# EAGLE library part AN6884 (library _mtvl_ic)
5-LED VU METER DRIVER Check availability <https://pricing.snapeda.com/parts/AN6884/Panasonic/view-part?ref=eda>
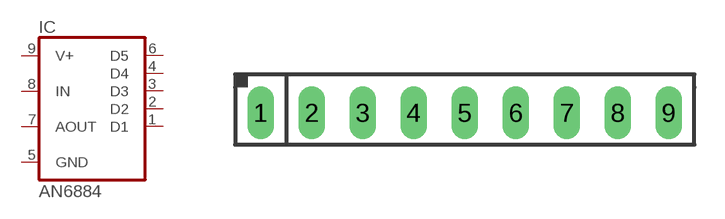
[diagram p49: symbol with the pads of SIP9; footprint SIP9]

Designator prefix IC

## AN6884 (AVAILABILITY: Not in stock; DESCRIPTION: Диапазон входных напряжений, min 3.5 В, Диапазон входных напряжений, max 16 В, Максимальное выходное напряжение 16 В; MF: Panasonic; MP: AN6884; PACKAGE: None; PRICE: None)  [SIP9]
1  D1  out
2  D2  out
3  D3  out
4  D4  out
5  GND  pwr
6  D5  out
7  AOUT  out
8  IN  in
9  V+  pwr

## Footprint SIP9 (pad centres in mm)
SIP-9 9 Pin SIP IC
drill 0.813 long: 1 -10.16,0; 2 -7.62,0; 3 -5.08,0; 4 -2.54,0; 5 0,0; 6 2.54,0; 7 5.08,0; 8 7.62,0; 9 10.16,0